# Altium schematic symbol library Inductors (B82477R4).SchLib: 1 symbol
Pins are listed as number, name and electrical type; pins without a type are passive.

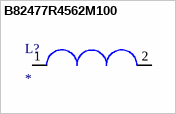
[diagram p0: symbol B82477R4562M100]

## B82477R4562M100
designator L?
B82477R4562M100, SMD, 5.6uH, 7.25A, Isat=12.75A 11.5mOhm 12.5x12.5x8.5mm; Tolerance: ±20%; Saturation current: 12.75A; Value: 5.6 uH; Temperature range: -55 to +150 °C
footprint B82477R4
pins: 1, 2